# EAGLE library part MC14066BDTR2G (library ON Semiconductor_By_element14_Batch_1)
Quad Mux
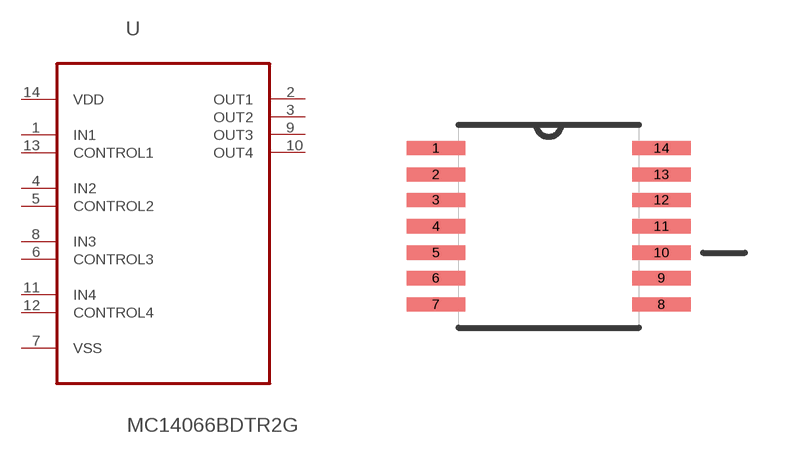
[diagram p252: symbol with the pads of SOP65P640X120-14N; footprint SOP65P640X120-14N]

Designator prefix U

## MC14066BDTR2G (MPN: MC14066BDTR2G; OC_FARNELL: 1568904; OC_NEWARK: 42K0527; P1I: o; PACKAGE: TSSOP-14; SUPPLIER: On Semiconductor)  [SOP65P640X120-14N]
1  IN1  in
2  OUT1  out
3  OUT2  out
4  IN2  in
5  CONTROL2  in
6  CONTROL3  in
7  VSS  pwr
8  IN3  in
9  OUT3  out
10  OUT4  out
11  IN4  in
12  CONTROL4  in
13  CONTROL1  in
14  VDD  pwr

## Footprint SOP65P640X120-14N (pad centres in mm)
smd 1.473 x 0.356: 1 -2.819,1.956; 2 -2.819,1.295; 3 -2.819,0.66; 4 -2.819,0; 5 -2.819,-0.66; 6 -2.819,-1.295; 7 -2.819,-1.956; 8 2.819,-1.956; 9 2.819,-1.295; 10 2.819,-0.66; 11 2.819,0; 12 2.819,0.66; 13 2.819,1.295; 14 2.819,1.956